# Altium schematic symbol library Schlib1.SchLib: 2 symbols
Pins are listed as number, name and electrical type; pins without a type are passive.

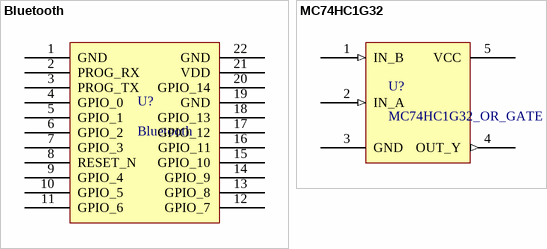
[diagram p0: symbols Bluetooth to MC74HC1G32]

## Bluetooth
designator U?
footprint BLUETOOTH
pins: 1 GND, 2 PROG_RX, 3 PROG_TX, 4 GPIO_0, 5 GPIO_1, 6 GPIO_2, 7 GPIO_3, 8 RESET_N, 9 GPIO_4, 10 GPIO_5, 11 GPIO_6, 12 GPIO_7, 13 GPIO_8, 14 GPIO_9, 15 GPIO_10, 16 GPIO_11, 17 GPIO_12, 18 GPIO_13, 19 GND, 20 GPIO_14, 21 VDD, 22 GND

## MC74HC1G32
designator U?, comment MC74HC1G32_OR_GATE
OR GATE
footprint SOT-23-5 (SOT-23/SC-74A; 5 Leads; Body 3.1 x 3.1 mm, inc. leads (LxW max))
pins: 1 IN_B (in), 2 IN_A (in), 3 GND (power), 4 OUT_Y (out), 5 VCC (power)